# Altium integrated library AltiumOpenLibs.IntLib: 204 symbols (part 2 of 2)
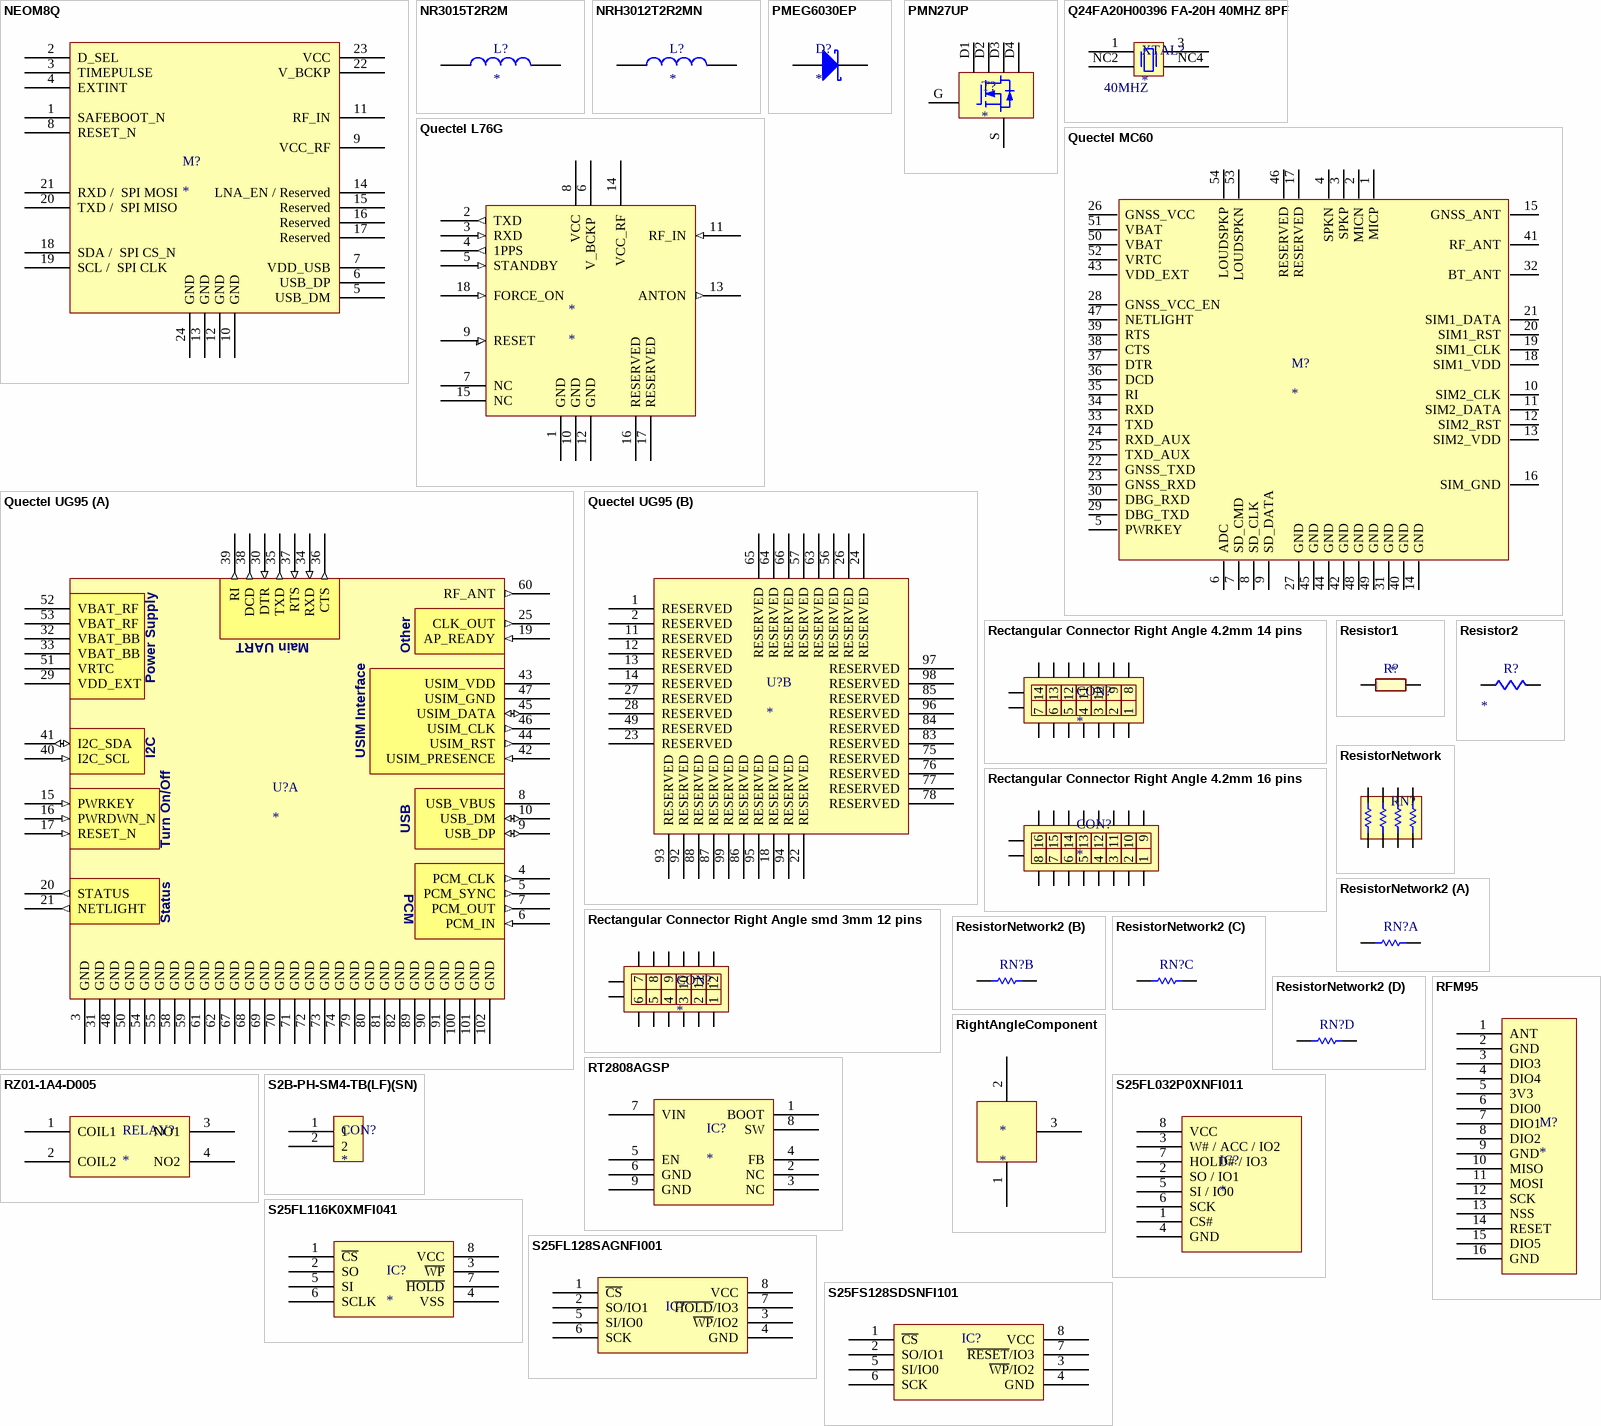
[diagram p10: symbols NEOM8Q to S25FS128SDSNFI101]

## RightAngleComponent
designator *
footprint RightAngleComponent
pins: 1, 2, 3

## RT2808AGSP
designator IC?
Manufacturer: RICHTEK; Manufacturer Part No: RT2808AGSP; Component Type: IC; Order Code: *; Supplier: *
footprint RT2808AGSP (SOIC, 8-Leads, Body 4.90x3.91mm, Pitch 1.27mm, Thermal Pad 3.50x2.50mm, IPC Medium Density)
pins: 1 BOOT, 2 NC, 3 NC, 4 FB, 5 EN, 6 GND, 7 VIN, 8 SW, 9 GND

## RZ01-1A4-D005
designator RELAY?
SCHRACK - TE CONNECTIVITY  RZ01-1A4-D005  General Purpose Relay, RZ Series, Power, Non Latching, SPST-NO, 5 VDC, 12 A; Manufacturer: SCHRACK - TE CONNECTIVITY; Manufacturer Part No: RZ01-1A4-D005; Component Type: Relay; Order Code: *; Supplier: *
footprint RZ01-1A4-D005
pins: 1 COIL1, 2 COIL2, 3 NO1, 4 NO2

## S2B-PH-SM4-TB(LF)(SN)
designator CON?
JST (JAPAN SOLDERLESS TERMINALS)  S2B-PH-SM4-TB(LF)(SN)  Wire-To-Board Connector, Right Angle, PH Series, Surface Mount, Header, 2, 2 mm; Component Type: Connector; Manufacturer: JST (JAPAN SOLDERLESS TERMINALS); Manufacturer Part No: S2B-PH-SM4-TB(LF)(SN); Order Code: *; Supplier: *
footprint S2B-PH-SM4-TB(LF)(SN)
pins: 1, 2

## S25FL032P0XNFI011
designator IC?
Manufacturer: SPANSION; Manufacturer Part No: S25FL032P0XNFI011; Component Type: IC; Order Code: *; Supplier: *
footprint S25FL032P0XNFI011 (PSON, 8-Leads, Body 5,00x6,00mm, Pitch 1,27mm, Thermal Pad 4,00x3,40mm, IPC Medium Density)
pins: 1 CS#, 2 SO / IO1, 3 W# / ACC / IO2, 4 GND, 5 SI / IO0, 6 SCK, 7 HOLD# / IO3, 8 VCC

## S25FL116K0XMFI041
designator IC?
SPANSION  S25FL116K0XMFI041  Flash Memory, NOR, 16 Mbit, 2M x 8bit, 108 MHz, SPI, SOIC, 8 Pins; Manufacturer: SPANSION; Manufacturer Part No: S25FL116K0XMFI041; Component Type: IC; Order Code: *; Supplier: *
footprint S25FL116K0XMFI041 (SOIC, 8-Leads, Body 4.90x3.90mm, Pitch 1.27mm, IPC Medium Density)
pins: 1 ~{CS}, 2 SO, 3 ~{WP}, 4 VSS, 5 SI, 6 SCLK, 7 ~{HOLD}, 8 VCC

## S25FL128SAGNFI001
designator IC?  (value not drawn)
SPANSION  S25FL128SAGNFI001  MEMORY, FLASH, 128MBIT, 8WSON; Manufacturer: SPANSION; Manufacturer Part No: S25FL128SAGNFI001; Component Type: IC; Order Code: *; Supplier: *
footprint S25FL128SAGNFI001
pins: 1 ~{CS}, 2 SO/IO1, 3 ~{WP}/IO2, 4 GND, 5 SI/IO0, 6 SCK, 7 ~{HOLD}/IO3, 8 VCC

## S25FS128SDSNFI101
designator IC?  (value not drawn)
SPANSION  S25FS128SDSNFI101  IC, MEMORY, FLASH, 128MBIT, 1.8V, 8WSON; Manufacturer: SPANSION; Manufacturer Part No: S25FS128SDSNFI101; Component Type: IC; Order Code: *; Supplier: *
footprint S25FS128SDSNFI101
pins: 1 ~{CS}, 2 SO/IO1, 3 ~{WP}/IO2, 4 GND, 5 SI/IO0, 6 SCK, 7 ~{RESET}/IO3, 8 VCC

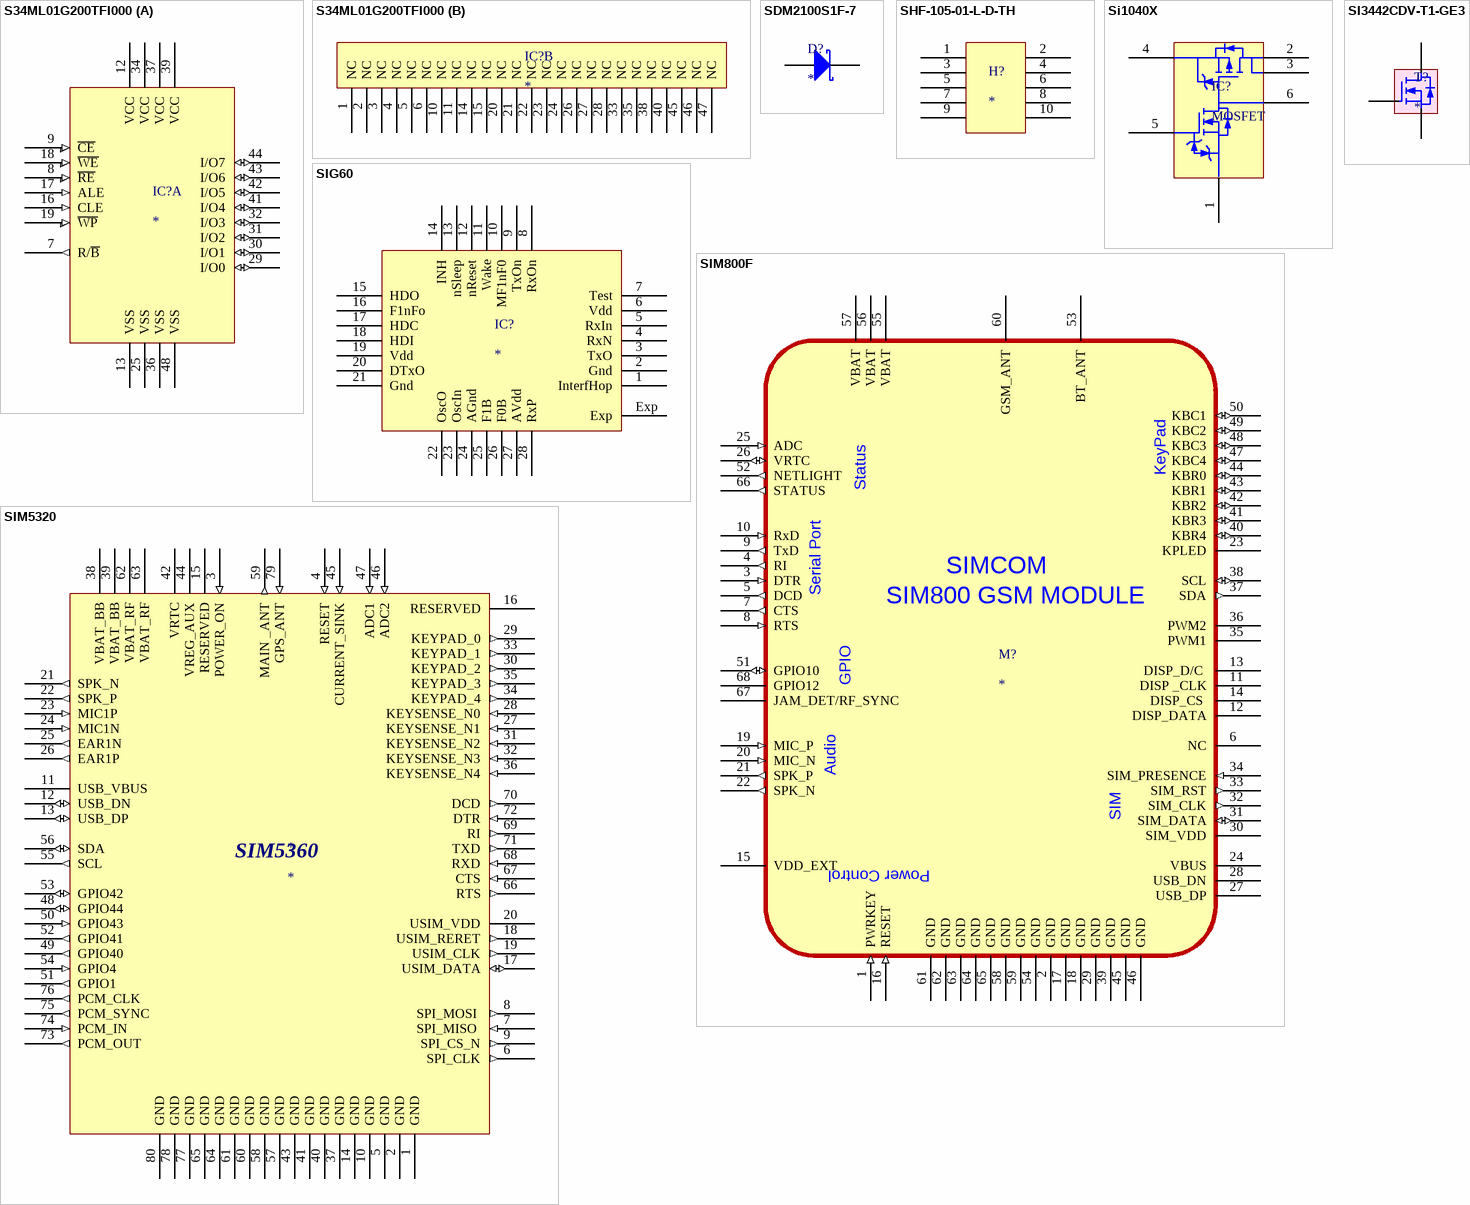
[diagram p6: symbols S34ML01G200TFI000 to SIM5320]

## S34ML01G200TFI000
designator IC?
SPANSION  S34ML01G200TFI000  MEMORY, FLASH, 1GBIT, X8, 48TSOP; Manufacturer: SPANSION; Manufacturer Part No: S34ML01G200TFI000; Order Code: *; Supplier: *; Component Type: IC
footprint TSSOP50P2000X120-48N (TSSOP, 48-Leads, Body 12.00x18.40mm, Pitch 0.50mm, IPC Medium Density)
part A pins: 7 R/~{B} (out), 8 ~{RE} (in), 9 ~{CE} (in), 12 VCC (power), 13 VSS (power), 16 CLE (in), 17 ALE (in), 18 ~{WE} (in), 19 ~{WP} (in), 25 VSS (power), 29 I/O0 (io), 30 I/O1 (io), 31 I/O2 (io), 32 I/O3 (io), 34 VCC (power), 36 VSS (power), 37 VCC (power), 39 VCC (power), 41 I/O4 (io), 42 I/O5 (io), 43 I/O6 (io), 44 I/O7 (io), 48 VSS (power)
part B pins: 1 NC, 2 NC, 3 NC, 4 NC, 5 NC, 6 NC, 10 NC, 11 NC, 14 NC, 15 NC, 20 NC, 21 NC, 22 NC, 23 NC, 24 NC, 26 NC, 27 NC, 28 NC, 33 NC, 35 NC, 38 NC, 40 NC, 45 NC, 46 NC, 47 NC

## SDM2100S1F-7
designator D?
Manufacturer: DIODES INC; Manufacturer Part No: SDM2100S1F-7; Component Type: Diode; Order Code: *; Supplier: *
footprint SDM2100S1F-7
pins: 1 A, 2 K

## SHF-105-01-L-D-TH
designator H?
Manufacturer: SAMTEC; Manufacturer Part No: SHF-105-01-L-D-TH; Order Code: *; Supplier: *; Component Type: HEADER
footprint SHF-105-01-L-D-TH
pins: 1, 2, 3, 4, 5, 6, 7, 8, 9, 10

## Si1040X
designator IC?, comment MOSFET
MOSFET N- & P-Ch MOSFET 8V 890mohm @ 2.5V; Manufacturer Part No: SI1040X-T1-GE3; Manufacturer: VISHAY SEMICONDUCTORS; Order Code: *; Supplier: *; Component Type: Mosfet
footprint SOT-563F
pins: 1, 2, 3, 4, 5, 6

## SI3442CDV-T1-GE3
designator T?
N-Channel 20 V (D-S) MOSFET; Manufacturer: VISHAY SILICONIX; Manufacturer Part No: SI3442CDV-T1-GE3; Order Code: *; Supplier: *; Component Type: Mosfet
footprint Si3442CDV-T1-GE3
pins: D, G, S

## SIG60
designator IC?
Manufacturer: YAMAR Electronics; Manufacturer Part No: SIG60; Order Code: *; Supplier: *; Component Type: IC
footprint SIG60
footprint SIG60
pins: 1 InterfHop, 2 Gnd, 3 TxO, 4 RxN, 5 RxIn, 6 Vdd, 7 Test, 8 RxOn, 9 TxOn, 10 MF1nF0, 11 Wake, 12 nReset, 13 nSleep, 14 INH, 15 HDO, 16 F1nFo, 17 HDC, 18 HDI, 19 Vdd, 20 DTxO, 21 Gnd, 22 OscO, 23 OscIn, 24 AGnd, 25 F1B, 26 F0B, 27 AVdd, 28 RxP, Exp

## SIM800F
designator M?
Manufacturer Part No: SIM800F; Manufacturer: SIMCOM; Component Type: Module GSM/GPRS; Order Code: *; Supplier: *
footprint SIM800F
pins: 1 PWRKEY (in), 2 GND, 3 DTR (in) "Data Terminal Ready", 4 RI (out) "Ring Indicator", 5 DCD (out) "Data Carrier Detect", 6 NC, 7 CTS (out), 8 RTS (in) "Request To Send", 9 TxD (out), 10 RxD (in), 11 DISP _CLK, 12 DISP_DATA, 13 DISP_D/C , 14 DISP_CS , 15 VDD_EXT (power), 16 RESET (in), 17 GND (power), 18 GND (power), 19 MIC_P (in), 20 MIC_N (in), 21 SPK_P (out), 22 SPK_N (out), 23 KPLED, 24 VBUS, 25 ADC (in), 26 VRTC (io), 27 USB_DP, 28 USB_DN, 29 GND (power), 30 SIM_VDD (power), 31 SIM_DATA (io), 32 SIM_CLK (out), 33 SIM_RST (out), 34 SIM_PRESENCE (in), 35 PWM1, 36 PWM2, 37 SDA (out), 38 SCL (io), 39 GND (power), 40 KBR4 (io), 41 KBR3 (io), 42 KBR2 (io), 43 KBR1 (io), 44 KBR0 (io), 45 GND (power), 46 GND (power), 47 KBC4 (io), 48 KBC3 (io), 49 KBC2 (io), 50 KBC1 (io), 51 GPIO10 (io), 52 NETLIGHT (out), 53 BT_ANT (power), 54 GND (power), 55 VBAT (power), 56 VBAT (power), 57 VBAT (power), 58 GND (power), 59 GND (power), 60 GSM_ANT, 61 GND, 62 GND, 63 GND, 64 GND, 65 GND, 66 STATUS (out), 67 JAM_DET/RF_SYNC, 68 GPIO12
text: KeyPad; Status; Serial Port; SIM800 GSM MODULE; GPIO; Audio; SIM; Power Control

## SIM5320
designator *
Manufacturer Part No: SIM5320; Manufacturer: SIMCOM; Component Type: Module GSM/GPRS/EDGE/HSDPA; Order Code: *; Supplier: *
footprint SIM5320
pins: 1 GND (power), 2 GND (power), 3 POWER_ON (in), 4 RESET (in), 5 GND (power), 6 SPI_CLK (out), 7 SPI_MISO  (in), 8 SPI_MOSI  (out), 9 SPI_CS_N (out), 10 GND (power), 11 USB_VBUS (power), 12 USB_DN (io), 13 USB_DP (io), 14 GND (power), 15 RESERVED, 16 RESERVED, 17 USIM_DATA (io), 18 USIM_RERET (out), 19 USIM_CLK (out), 20 USIM_VDD (power), 21 SPK_N (out), 22 SPK_P (out), 23 MIC1P (in), 24 MIC1N (in), 25 EAR1N (out), 26 EAR1P (out), 27 KEYSENSE_N1 (in), 28 KEYSENSE_N0 (in), 29 KEYPAD_0 (out), 30 KEYPAD_2 (out), 31 KEYSENSE_N2 (in), 32 KEYSENSE_N3 (in), 33 KEYPAD_1 (out), 34 KEYPAD_4 (out), 35 KEYPAD_3 (out), 36 KEYSENSE_N4 (in), 37 GND (power), 38 VBAT_BB (power), 39 VBAT_BB (power), 40 GND (power), 41 GND (power), 42 VRTC (power), 43 GND (power), 44 VREG_AUX (power), 45 CURRENT_SINK (in), 46 ADC2 (in), 47 ADC1 (in), 48 GPIO44 (io), 49 GPIO40 (out), 50 GPIO43 (in), 51 GPIO1 (out), 52 GPIO41 (out), 53 GPIO42 (io), 54 GPIO4 (in), 55 SCL (out), 56 SDA (io), 57 GND (power), 58 GND (power), 59 MAIN _ANT (out), 60 GND (power), 61 GND (power), 62 VBAT_RF (power), 63 VBAT_RF (power), 64 GND (power), 65 GND (power), 66 RTS (out), 67 CTS (in), 68 RXD (in), 69 RI (out), 70 DCD (out), 71 TXD (out), 72 DTR (in), 73 PCM_OUT (out), 74 PCM_IN (in), 75 PCM_SYNC (out), 76 PCM_CLK (out), 77 GND (power), 78 GND (power), 79 GPS_ANT (in), 80 GND (power)
text: SIM5360

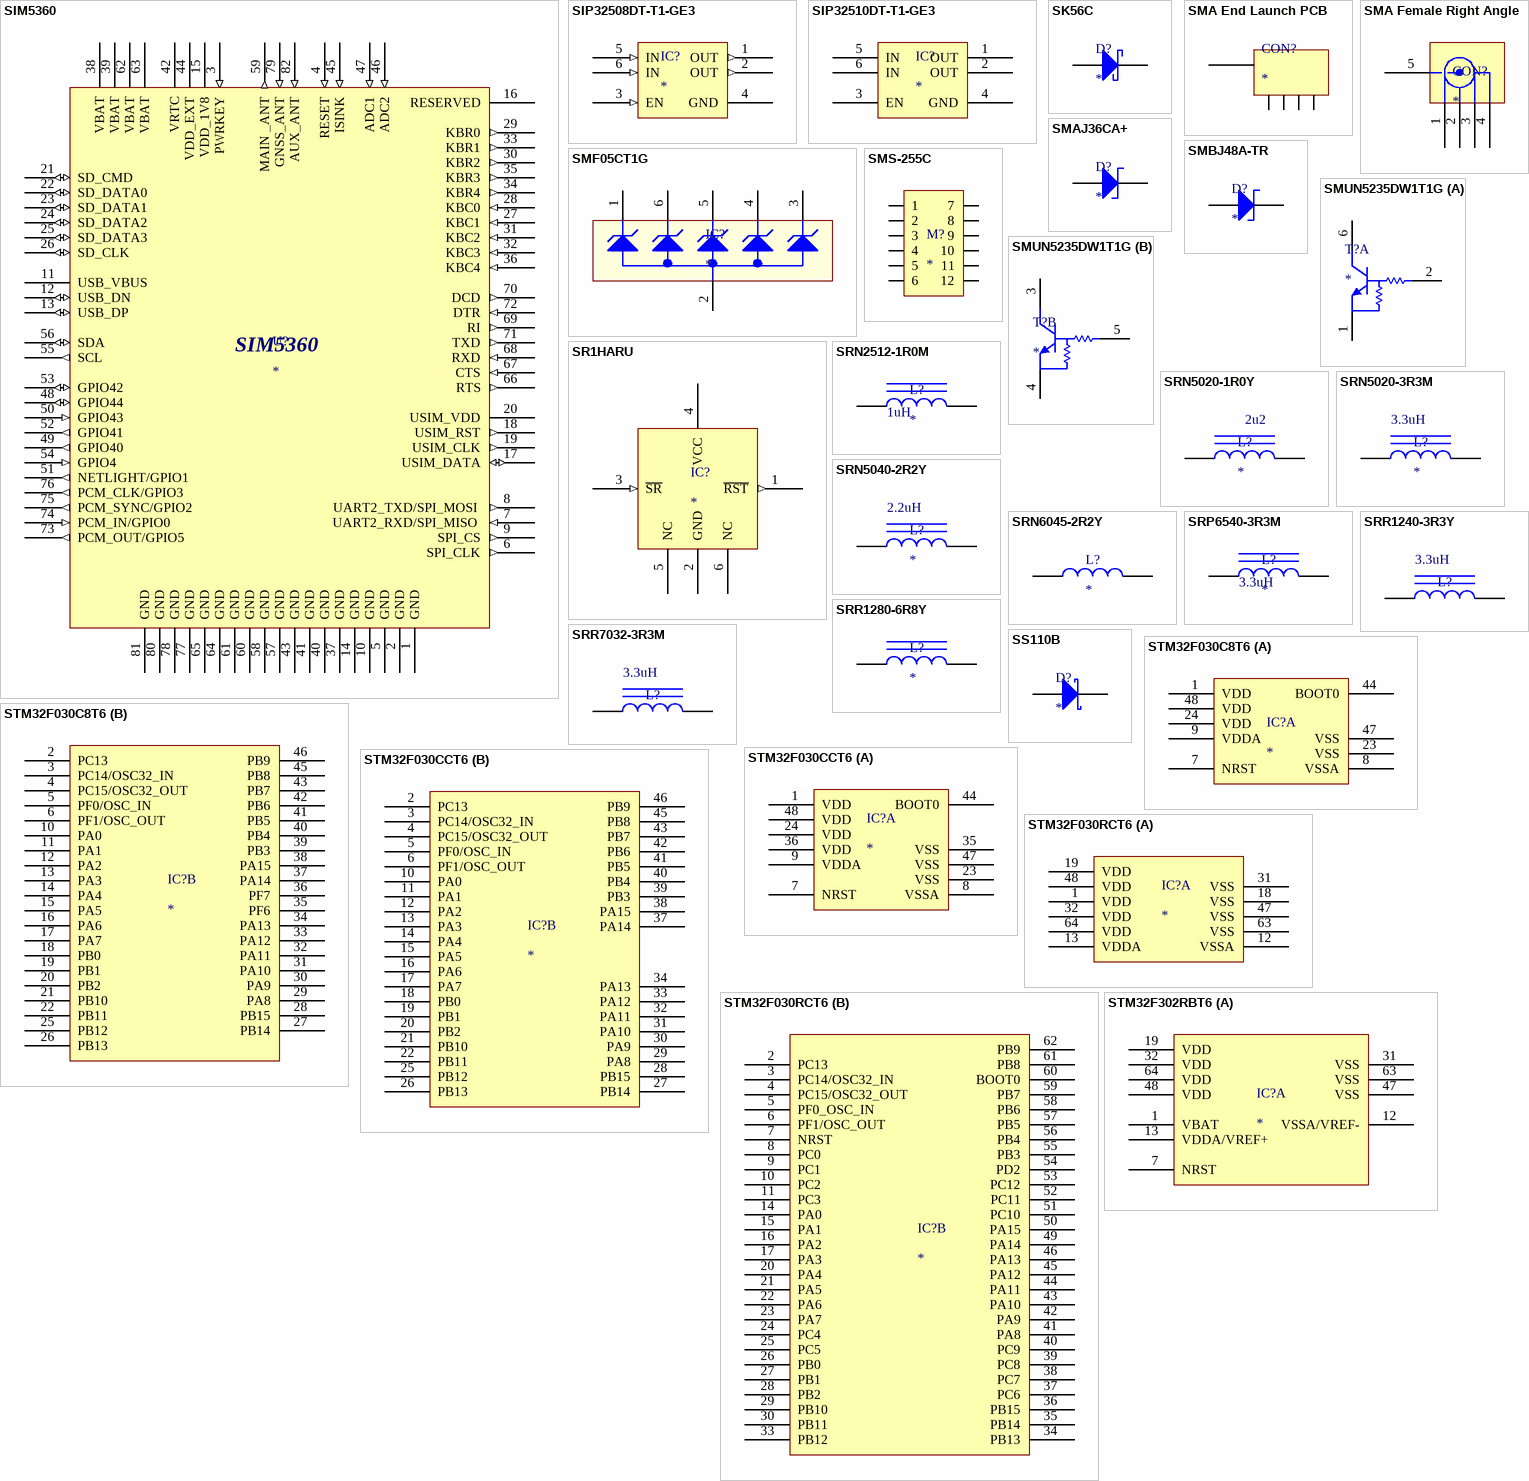
[diagram p7: symbols SIM5360 to STM32F302RBT6]

## SIM5360
designator U?
Manufacturer: SIMCOM; Manufacturer Part No: SIM5360; Component Type: Module GSM/GPRS/EDGE/HSDPA; Order Code: *; Supplier: *
footprint SIM5360
pins: 1 GND (power), 2 GND (power), 3 PWRKEY (in), 4 RESET (in), 5 GND (power), 6 SPI_CLK (out), 7 UART2_RXD/SPI_MISO  (in), 8 UART2_TXD/SPI_MOSI  (out), 9 SPI_CS (out), 10 GND (power), 11 USB_VBUS (power), 12 USB_DN (io), 13 USB_DP (io), 14 GND (power), 15 VDD_1V8 (power), 16 RESERVED, 17 USIM_DATA (io), 18 USIM_RST (out), 19 USIM_CLK (out), 20 USIM_VDD (power), 21 SD_CMD (io), 22 SD_DATA0 (io), 23 SD_DATA1 (io), 24 SD_DATA2 (io), 25 SD_DATA3 (io), 26 SD_CLK (io), 27 KBC1 (in), 28 KBC0 (in), 29 KBR0 (out), 30 KBR2 (out), 31 KBC2 (in), 32 KBC3 (in), 33 KBR1 (out), 34 KBR4 (out), 35 KBR3 (out), 36 KBC4 (in), 37 GND (power), 38 VBAT (power), 39 VBAT (power), 40 GND (power), 41 GND (power), 42 VRTC (power), 43 GND (power), 44 VDD_EXT (power), 45 ISINK (in), 46 ADC2 (in), 47 ADC1 (in), 48 GPIO44 (io), 49 GPIO40 (out), 50 GPIO43 (in), 51 NETLIGHT/GPIO1 (out), 52 GPIO41 (out), 53 GPIO42 (io), 54 GPIO4 (in), 55 SCL (out), 56 SDA (io), 57 GND (power), 58 GND (power), 59 MAIN _ANT (out), 60 GND (power), 61 GND (power), 62 VBAT (power), 63 VBAT (power), 64 GND (power), 65 GND (power), 66 RTS (out), 67 CTS (in), 68 RXD (in), 69 RI (out), 70 DCD (out), 71 TXD (out), 72 DTR (in), 73 PCM_OUT/GPIO5 (out), 74 PCM_IN/GPIO0 (in), 75 PCM_SYNC/GPIO2 (out), 76 PCM_CLK/GPIO3 (out), 77 GND (power), 78 GND (power), 79 GNSS_ANT (in), 80 GND (power), 81 GND (power), 82 AUX_ANT (in)

## SIP32508DT-T1-GE3
designator IC?
Power Switch ICs - Power Distribution Slew Rate Controlled Load Switch; Manufacturer: VISHAY SEMICONDUCTORS; Manufacturer Part No: SIP32508DT-T1-GE3; Order Code: *; Supplier: *; Component Type: IC
footprint SOT23-6
pins: 1 OUT (out), 2 OUT (out), 3 EN (in), 4 GND, 5 IN (in), 6 IN (in)

## SIP32510DT-T1-GE3
designator IC?
Power Load Switch, Slew Rate Controlled, High Side, Active High, 1 Output, 5.5V, TSOT-23-6; Manufacturer: VISHAY; Manufacturer Part No: SIP32510DT-T1-GE3; Component Type: IC; Order Code: *; Supplier: *
footprint SOT23-6
pins: 1 OUT, 2 OUT, 3 EN, 4 GND, 5 IN, 6 IN

## SK56C
designator D?
Manufacturer: TAIWAN SEMICONDUCTOR; Manufacturer Part No: SK56C; Order Code: *; Supplier: *; Component Type: Diode
footprint SK56C
pins: 1 K, 2 A

## SMA End Launch PCB
designator CON?
Manufacturer: *; Manufacturer Part No: *; Order Code: *; Supplier: *; Component Type: Connector
footprint SMA End Launch PCB
pins: 1, 2, 3, 4, 5

## SMA Female Right Angle
designator CON?
Component Type: Connector; Manufacturer: *; Manufacturer Part No: *; Order Code: *; Supplier: *
footprint SMA FEMALE RIGHT ANGLE
pins: 1, 2, 3, 4, 5

## SMAJ36CA+
designator D?
Manufacturer Part No: SMAJ36CA+; Manufacturer: MULTICOMP; Component Type: Diode; Order Code: *; Supplier: *
footprint SMAJ36CA+ (Chip Diode, 2-Leads, Body 5.04x2.63mm, IPC Medium Density)
pins: 1 K, 2 A

## SMBJ48A-TR
designator D?
Manufacturer: STMICROELECTRONICS; Manufacturer Part No: SMBJ48A-TR; Component Type: Diode; Order Code: *; Supplier: *
footprint SMBJ48A-TR
pins: 1 K, 2 A

## SMF05CT1G
designator IC?
TVS Diode, SMF Series, Unidirectional, 5 V, 12.5 V, SC-88, 6 Pins; Manufacturer: ON SEMICONDUCTOR; Manufacturer Part No: SMF05CT1G; Component Type: Diode; Order Code: *; Supplier: *
footprint SC70-6
pins: 1 K1, 2 A, 3 K3, 4 K4, 5 K5, 6 K6

## SMS-255C
designator M?
Manufacturer: Leader Tech Inc.; Manufacturer Part No: SMS-255C; Supplier: *; Order Code: *; Component Type: Shield
footprint SMS-255C
pins: 1, 2, 3, 4, 5, 6, 7, 8, 9, 10, 11, 12

## SMUN5235DW1T1G
designator T?
Manufacturer: ON SEMICONDUCTOR; Manufacturer Part No: SMUN5235DW1T1G; Component Type: Dual NPN Transistor; Order Code: *; Supplier: *
footprint SMUN5235DW1T1G
part A pins: 1 E1, 2 B1, 6 C1 (oc)
part B pins: 3 C2 (oc), 4 E2, 5 B2

## SR1HARU
designator IC?
STMICROELECTRONICS  SR1HARU  SUPERVISOR, RESET, 5.5V, UDFN-6; Manufacturer: STMICROELECTRONICS; Manufacturer Part No: SR1HARU; Order Code: *; Supplier: *; Component Type: IC
footprint UDFN-6
pins: 1 ~{RST} (out), 2 GND (power), 3 ~{SR} (in), 4 VCC (power), 5 NC, 6 NC

## SRN2512-1R0M
designator L?  value 1uH
BOURNS  SRN2512-1R0M  Surface Mount Power Inductor, SRN2512 Series, 1 µH, ± 20%, Semishielded, 0.057 ohm, 3.5 A; Manufacturer: BOURNS; Manufacturer Part No: SRN2512-1R0M; Order Code: *; Supplier: *; Component Type: Inductor
footprint SRN2512-1R0M
pins: 1, 2

## SRN5020-1R0Y
designator L?  value 2u2
BOURNS  SRN5020-2R2Y  INDUCTOR, SEMI-SHIELDED, 2.2uH, 2.9A, 30%, SMD; Manufacturer Part No: SRN5020-2R2Y; Manufacturer: BOURNS; Order Code: *; Supplier: *; Component Type: Inductor
footprint BOURNS_SRN5020-1R0Y
pins: 1, 2

## SRN5020-3R3M
designator L?  value 3.3uH
BOURNS  SRN5020-3R3M  INDUCTOR, SEMI-SHIELDED, 3.3uH, 2.4A, 20%, SMD; Manufacturer: BOURNS; Manufacturer Part No: SRN5020-3R3M; Order Code: *; Supplier: *; Component Type: Inductor
footprint SRN5020-3R3M
pins: 1, 2

## SRN5040-2R2Y
designator L?  value 2.2uH
BOURNS  SRN5040-2R2Y  Surface Mount Power Inductor, SRN5040 Series, 2.2 µH, ± 30%, Semishielded, 0.021 ohm, 3.5 A; Manufacturer: BOURNS; Manufacturer Part No: SRN5040-2R2Y; Order Code: *; Component Type: Inductor; Supplier: *
footprint SRN5040-2R2Y
pins: 1, 2

## SRN6045-2R2Y
designator L?
Manufacturer: BOURNS; Manufacturer Part No: SRN6045-2R2Y; Value: 2.2uH; Component Type: Inductor; Order Code: *; Supplier: *
footprint SRN6045-2R2Y
pins: 1, 2

## SRP6540-3R3M
designator L?  value 3.3uH
BOURNS  SRP6540-3R3M  Surface Mount Power Inductor, SRP6540 Series, 3.3 µH, ± 20%, Shielded, 0.023 ohm, 6.5 A; Manufacturer: BOURNS; Manufacturer Part No: SRP6540-3R3M; Order Code: *; Supplier: *; Component Type: Inductor
footprint SRP6540-3R3M
pins: 1, 2

## SRR1240-3R3Y
designator L?  value 3.3uH  (hidden comment: *)
BOURNS  SRR1240-3R3Y  Surface Mount Power Inductor, SRR1240 Series, 3.3 µH, ± 30%, Shielded, 0.015 ohm, 6.8 A; Manufacturer: BOURNS; Manufacturer Part No: SRR1240-3R3Y; Component Type: Inductor; Order Code: *; Supplier: *
footprint SRR1240-3R3Y
pins: 1, 2

## SRR1280-6R8Y
designator L?
Manufacturer Part No: SRR1280-6R8Y; Manufacturer: BOURNS; Order Code: *; Supplier: *; Component Type: Inductor
footprint SRR1280-6R8Y
pins: 1, 2

## SRR7032-3R3M
designator L?  value 3.3uH  (hidden comment: *)
BOURNS  SRR7032-3R3M  Surface Mount Power Inductor, SRR7032 Series, 3.3 µH, ± 20%, Shielded, 0.027 ohm, 2.4 A; Manufacturer Part No: SRR7032-3R3M; Manufacturer: BOURNS; Order Code: *; Supplier: *; Component Type: Inductor
footprint SRR7032-3R3M
pins: 1, 2

## SS110B
designator D?
Manufacturer: MULTICOMP; Manufacturer Part No: SS110B; Component Type: Diode; Order Code: *; Supplier: *
footprint SS110B (Chip Diode, 2-Leads, Body 5,33x2,01mm, IPC Medium Density)
pins: 1 A, 2 K

## STM32F030C8T6
designator IC?
Manufacturer: STMICROELECTRONICS; Manufacturer Part No: STM32F030C8T6; Component Type: IC; Order Code: *; Supplier: *
footprint STM32F030C8T6 (TSQFP, 48-Leads, Body 7.00x7.00mm, Pitch 0.50mm, IPC Medium Density)
part A pins: 1 VDD, 7 NRST, 8 VSSA, 9 VDDA, 23 VSS, 24 VDD, 44 BOOT0, 47 VSS, 48 VDD
part B pins: 2 PC13, 3 PC14/OSC32_IN, 4 PC15/OSC32_OUT, 5 PF0/OSC_IN, 6 PF1/OSC_OUT, 10 PA0, 11 PA1, 12 PA2, 13 PA3, 14 PA4, 15 PA5, 16 PA6, 17 PA7, 18 PB0, 19 PB1, 20 PB2, 21 PB10, 22 PB11, 25 PB12, 26 PB13, 27 PB14, 28 PB15, 29 PA8, 30 PA9, 31 PA10, 32 PA11, 33 PA12, 34 PA13, 35 PF6, 36 PF7, 37 PA14, 38 PA15, 39 PB3, 40 PB4, 41 PB5, 42 PB6, 43 PB7, 45 PB8, 46 PB9

## STM32F030CCT6
designator IC?
Manufacturer: STMICROELECTRONICS; Manufacturer Part No: STM32F030CCT6; Component Type: IC; Order Code: *; Supplier: *
footprint STM32F030CCT6
part A pins: 1 VDD, 7 NRST, 8 VSSA, 9 VDDA, 23 VSS, 24 VDD, 35 VSS, 36 VDD, 44 BOOT0, 47 VSS, 48 VDD
part B pins: 2 PC13, 3 PC14/OSC32_IN, 4 PC15/OSC32_OUT, 5 PF0/OSC_IN, 6 PF1/OSC_OUT, 10 PA0, 11 PA1, 12 PA2, 13 PA3, 14 PA4, 15 PA5, 16 PA6, 17 PA7, 18 PB0, 19 PB1, 20 PB2, 21 PB10, 22 PB11, 25 PB12, 26 PB13, 27 PB14, 28 PB15, 29 PA8, 30 PA9, 31 PA10, 32 PA11, 33 PA12, 34 PA13, 37 PA14, 38 PA15, 39 PB3, 40 PB4, 41 PB5, 42 PB6, 43 PB7, 45 PB8, 46 PB9

## STM32F030RCT6
designator IC?
Manufacturer Part No: STM32F030RCT6; Manufacturer: STMICROELECTRONICS; Component Type: IC; Supplier: *; Order Code: *
footprint STM32F030RCT6 (TSQFP, 64-Leads, Body 10.00x10.00mm, Pitch 0.50mm, IPC Medium Density)
part A pins: 1 VDD, 12 VSSA, 13 VDDA, 18 VSS, 19 VDD, 31 VSS, 32 VDD, 47 VSS, 48 VDD, 63 VSS, 64 VDD
part B pins: 2 PC13, 3 PC14/OSC32_IN, 4 PC15/OSC32_OUT, 5 PF0_OSC_IN, 6 PF1/OSC_OUT, 7 NRST, 8 PC0, 9 PC1, 10 PC2, 11 PC3, 14 PA0, 15 PA1, 16 PA2, 17 PA3, 20 PA4, 21 PA5, 22 PA6, 23 PA7, 24 PC4, 25 PC5, 26 PB0, 27 PB1, 28 PB2, 29 PB10, 30 PB11, 33 PB12, 34 PB13, 35 PB14, 36 PB15, 37 PC6, 38 PC7, 39 PC8, 40 PC9, 41 PA8, 42 PA9, 43 PA10, 44 PA11, 45 PA12, 46 PA13, 49 PA14, 50 PA15, 51 PC10, 52 PC11, 53 PC12, 54 PD2, 55 PB3, 56 PB4, 57 PB5, 58 PB6, 59 PB7, 60 BOOT0, 61 PB8, 62 PB9

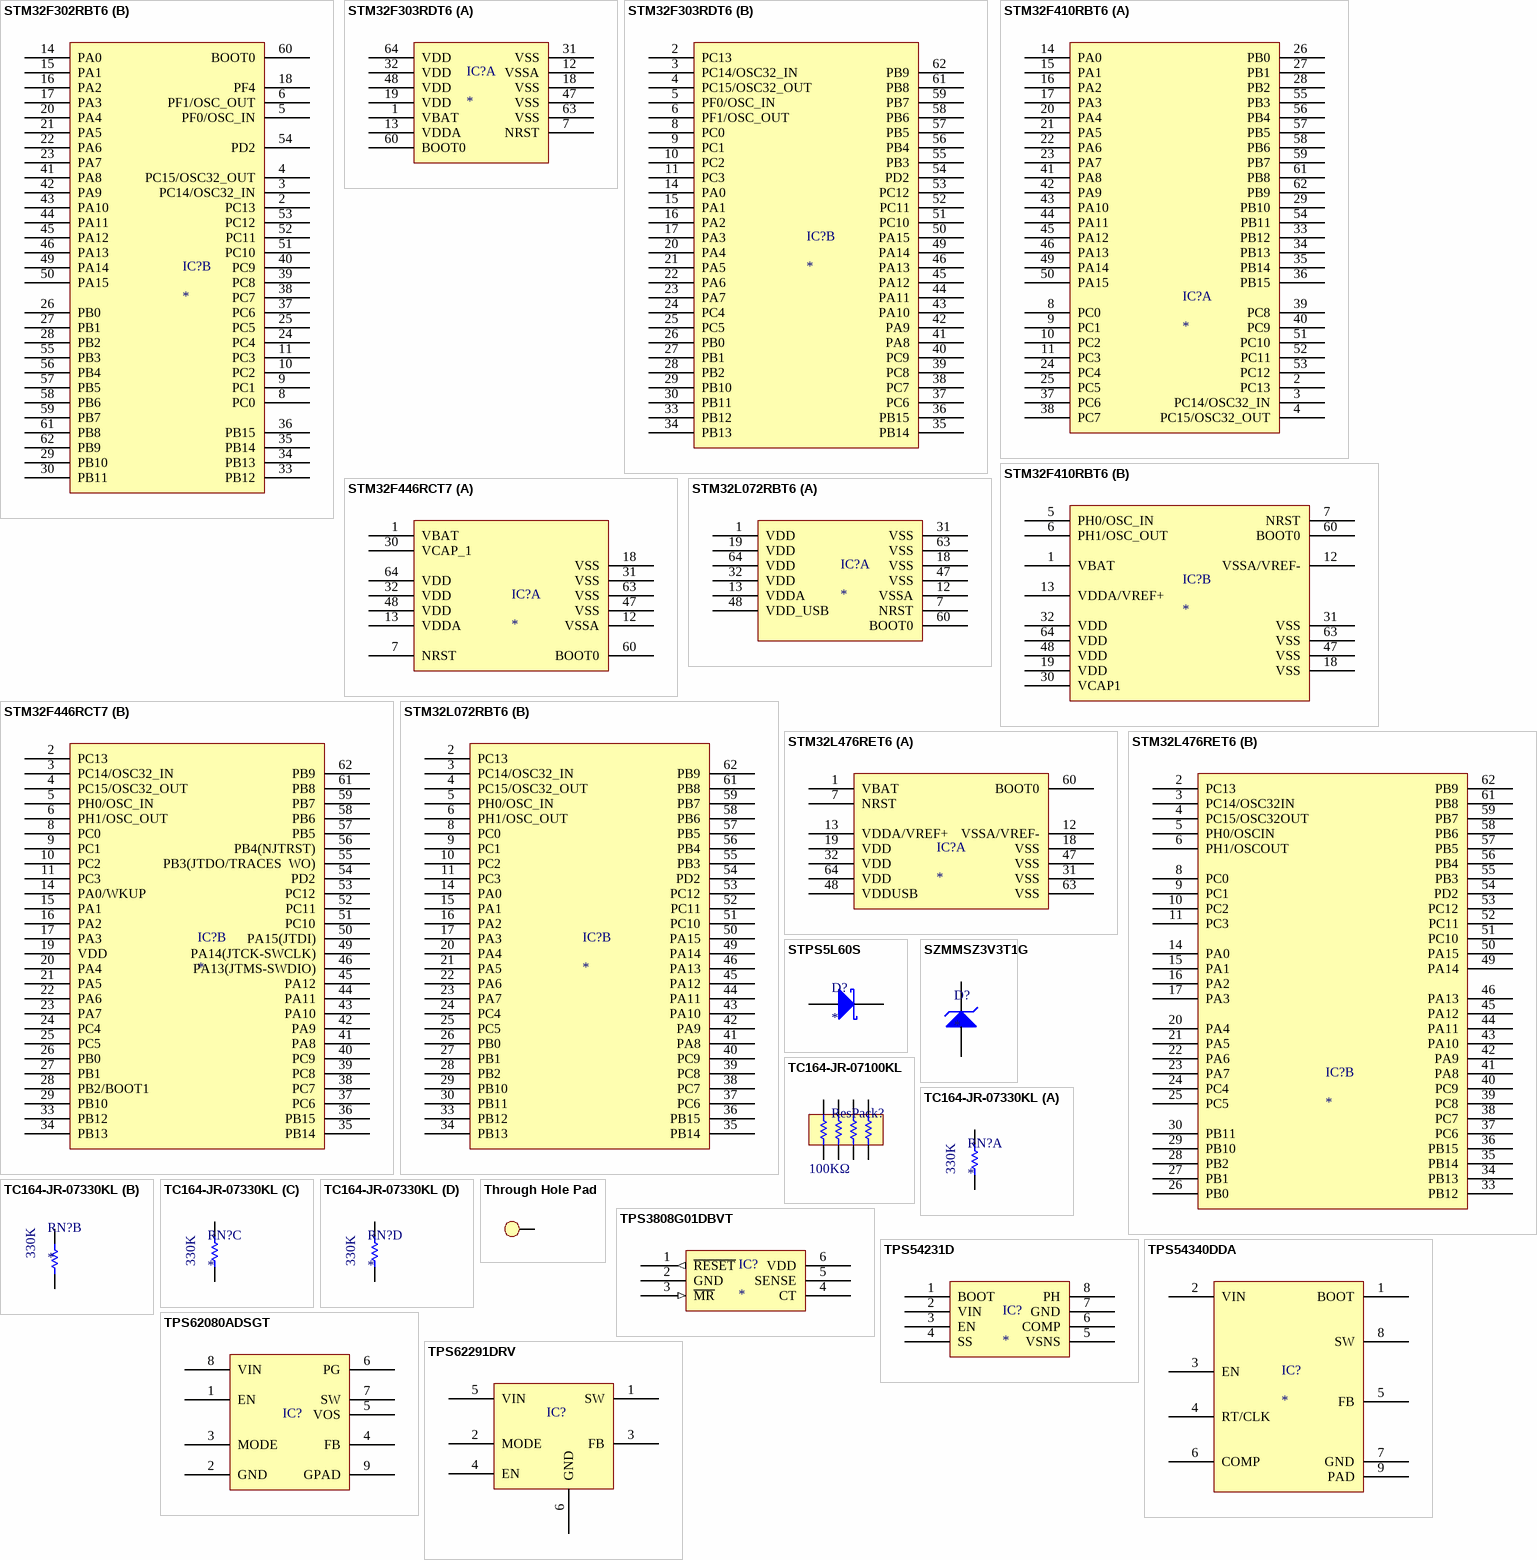
[diagram p8: symbols STM32F302RBT6 to TPS62291DRV]

## STM32F302RBT6
designator IC?
STMICROELECTRONICS  STM32F302RBT6  32 Bit Microcontroller, General Purpose, ARM Cortex-M4, 72 MHz, 128 KB, 24 KB, 64 Pins, LQFP; Manufacturer: STMICROELECTRONICS; Manufacturer Part No: STM32F302RBT6; Component Type: IC; Order Code: *; Supplier: *
footprint TSQFP50P1200X1200X160-64N (TSQFP, 64-Leads, Body 10.00x10.00mm, Pitch 0.50mm, IPC Medium Density)
part A pins: 1 VBAT, 7 NRST, 12 VSSA/VREF-, 13 VDDA/VREF+, 19 VDD, 31 VSS, 32 VDD, 47 VSS, 48 VDD, 63 VSS, 64 VDD
part B pins: 2 PC13, 3 PC14/OSC32_IN, 4 PC15/OSC32_OUT, 5 PF0/OSC_IN, 6 PF1/OSC_OUT, 8 PC0, 9 PC1, 10 PC2, 11 PC3, 14 PA0, 15 PA1, 16 PA2, 17 PA3, 18 PF4, 20 PA4, 21 PA5, 22 PA6, 23 PA7, 24 PC4, 25 PC5, 26 PB0, 27 PB1, 28 PB2, 29 PB10, 30 PB11, 33 PB12, 34 PB13, 35 PB14, 36 PB15, 37 PC6, 38 PC7, 39 PC8, 40 PC9, 41 PA8, 42 PA9, 43 PA10, 44 PA11, 45 PA12, 46 PA13, 49 PA14, 50 PA15, 51 PC10, 52 PC11, 53 PC12, 54 PD2, 55 PB3, 56 PB4, 57 PB5, 58 PB6, 59 PB7, 60 BOOT0, 61 PB8, 62 PB9

## STM32F303RDT6
designator IC?
Manufacturer: STMICROELECTRONICS; Manufacturer Part No: STM32F303RDT6; Component Type: IC; Order Code: *; Supplier: *
footprint STM32F303RDT6 (TSQFP, 64-Leads, Body 10.00x10.00mm, Pitch 0.50mm, IPC Medium Density)
part A pins: 1 VBAT, 7 NRST, 12 VSSA, 13 VDDA, 18 VSS, 19 VDD, 31 VSS, 32 VDD, 47 VSS, 48 VDD, 60 BOOT0, 63 VSS, 64 VDD
part B pins: 2 PC13, 3 PC14/OSC32_IN, 4 PC15/OSC32_OUT, 5 PF0/OSC_IN, 6 PF1/OSC_OUT, 8 PC0, 9 PC1, 10 PC2, 11 PC3, 14 PA0, 15 PA1, 16 PA2, 17 PA3, 20 PA4, 21 PA5, 22 PA6, 23 PA7, 24 PC4, 25 PC5, 26 PB0, 27 PB1, 28 PB2, 29 PB10, 30 PB11, 33 PB12, 34 PB13, 35 PB14, 36 PB15, 37 PC6, 38 PC7, 39 PC8, 40 PC9, 41 PA8, 42 PA9, 43 PA10, 44 PA11, 45 PA12, 46 PA13, 49 PA14, 50 PA15, 51 PC10, 52 PC11, 53 PC12, 54 PD2, 55 PB3, 56 PB4, 57 PB5, 58 PB6, 59 PB7, 61 PB8, 62 PB9

## STM32F410RBT6
designator IC?
Manufacturer: STMICROELECTRONICS; Manufacturer Part No: STM32F410RBT6; Component Type: IC; Order Code: *; Supplier: *
footprint STM32F410RBT6 (TSQFP, 64-Leads, Body 10.00x10.00mm, Pitch 0.50mm, IPC Medium Density)
part A pins: 2 PC13, 3 PC14/OSC32_IN, 4 PC15/OSC32_OUT, 8 PC0, 9 PC1, 10 PC2, 11 PC3, 14 PA0, 15 PA1, 16 PA2, 17 PA3, 20 PA4, 21 PA5, 22 PA6, 23 PA7, 24 PC4, 25 PC5, 26 PB0, 27 PB1, 28 PB2, 29 PB10, 33 PB12, 34 PB13, 35 PB14, 36 PB15, 37 PC6, 38 PC7, 39 PC8, 40 PC9, 41 PA8, 42 PA9, 43 PA10, 44 PA11, 45 PA12, 46 PA13, 49 PA14, 50 PA15, 51 PC10, 52 PC11, 53 PC12, 54 PB11, 55 PB3, 56 PB4, 57 PB5, 58 PB6, 59 PB7, 61 PB8, 62 PB9
part B pins: 1 VBAT, 5 PH0/OSC_IN, 6 PH1/OSC_OUT, 7 NRST, 12 VSSA/VREF-, 13 VDDA/VREF+, 18 VSS, 19 VDD, 30 VCAP1, 31 VSS, 32 VDD, 47 VSS, 48 VDD, 60 BOOT0, 63 VSS, 64 VDD

## STM32F446RCT7
designator IC?
Manufacturer: STMICROELECTRONICS; Manufacturer Part No: STM32F446RCT7; Component Type: IC; Order Code: *; Supplier: *
footprint STM32F446RCT7 (TSQFP, 64-Leads, Body 7.00x10.00mm, Pitch 0.50mm, IPC Medium Density)
part A pins: 1 VBAT, 7 NRST, 12 VSSA, 13 VDDA, 18 VSS, 30 VCAP_1, 31 VSS, 32 VDD, 47 VSS, 48 VDD, 60 BOOT0, 63 VSS, 64 VDD
part B pins: 2 PC13, 3 PC14/OSC32_IN, 4 PC15/OSC32_OUT, 5 PH0/OSC_IN, 6 PH1/OSC_OUT, 8 PC0, 9 PC1, 10 PC2, 11 PC3, 14 PA0/WKUP, 15 PA1, 16 PA2, 17 PA3, 19 VDD, 20 PA4, 21 PA5, 22 PA6, 23 PA7, 24 PC4, 25 PC5, 26 PB0, 27 PB1, 28 PB2/BOOT1, 29 PB10, 33 PB12, 34 PB13, 35 PB14, 36 PB15, 37 PC6, 38 PC7, 39 PC8, 40 PC9, 41 PA8, 42 PA9, 43 PA10, 44 PA11, 45 PA12, 46  PA13(JTMS-SWDIO), 49 PA14(JTCK-SWCLK), 50 PA15(JTDI), 51 PC10, 52 PC11, 53 PC12, 54 PD2, 55 PB3(JTDO/TRACES  WO), 56 PB4(NJTRST), 57 PB5, 58 PB6, 59 PB7, 61 PB8, 62 PB9

## STM32L072RBT6
designator IC?
Manufacturer Part No: STM32L072RBT6; Manufacturer: STMICROELECTRONICS; Component Type: IC; Order Code: *; Supplier: *
footprint STM32L072RBT6 (TSQFP, 64-Leads, Body 10.00x10.00mm, Pitch 0.50mm, IPC Medium Density)
part A pins: 1 VDD, 7 NRST, 12 VSSA, 13 VDDA, 18 VSS, 19 VDD, 31 VSS, 32 VDD, 47 VSS, 48 VDD_USB, 60 BOOT0, 63 VSS, 64 VDD
part B pins: 2 PC13, 3 PC14/OSC32_IN, 4 PC15/OSC32_OUT, 5 PH0/OSC_IN, 6 PH1/OSC_OUT, 8 PC0, 9 PC1, 10 PC2, 11 PC3, 14 PA0, 15 PA1, 16 PA2, 17 PA3, 20 PA4, 21 PA5, 22 PA6, 23 PA7, 24 PC4, 25 PC5, 26 PB0, 27 PB1, 28 PB2, 29 PB10, 30 PB11, 33 PB12, 34 PB13, 35 PB14, 36 PB15, 37 PC6, 38 PC7, 39 PC8, 40 PC9, 41 PA8, 42 PA9, 43 PA10, 44 PA11, 45 PA12, 46 PA13, 49 PA14, 50 PA15, 51 PC10, 52 PC11, 53 PC12, 54 PD2, 55 PB3, 56 PB4, 57 PB5, 58 PB6, 59 PB7, 61 PB8, 62 PB9

## STM32L476RET6
designator IC?
Manufacturer: STMICROELECTRONICS; Manufacturer Part No: STM32L476RET6; Component Type: IC; Supplier: *; Order Code: *
footprint STM32L476RET6 (TSQFP, 64-Leads, Body 10.00x10.00mm, Pitch 0.50mm, IPC Medium Density)
part A pins: 1 VBAT , 7 NRST, 12 VSSA/VREF-, 13 VDDA/VREF+, 18 VSS, 19 VDD, 31 VSS, 32 VDD, 47 VSS, 48 VDDUSB, 60 BOOT0, 63 VSS, 64 VDD
part B pins: 2 PC13, 3 PC14/OSC32IN, 4 PC15/OSC32OUT, 5 PH0/OSCIN, 6 PH1/OSCOUT, 8 PC0, 9 PC1, 10 PC2, 11 PC3, 14 PA0, 15 PA1, 16 PA2, 17 PA3, 20 PA4, 21 PA5, 22 PA6, 23 PA7, 24 PC4, 25 PC5, 26 PB0, 27 PB1, 28 PB2, 29 PB10, 30 PB11, 33 PB12, 34 PB13, 35 PB14, 36 PB15, 37 PC6, 38 PC7, 39 PC8, 40 PC9, 41 PA8, 42 PA9, 43 PA10, 44 PA11, 45 PA12, 46 PA13, 49 PA14, 50 PA15, 51 PC10, 52 PC11, 53 PC12, 54 PD2, 55 PB3, 56 PB4, 57 PB5, 58 PB6, 59 PB7, 61 PB8, 62 PB9

## STPS5L60S
designator D?
STMICROELECTRONICS  STPS5L60S  Rectifier Diode, Single, 60 V, 5 A, DO-214AB, 2, 520 mV; Manufacturer: STMICROELECTRONICS; Manufacturer Part No: STPS5L60S; Component Type: Diode; Order Code: *; Supplier: *
footprint STPS5L60S
pins: 1 K, 2 A

## SZMMSZ3V3T1G
designator D?
Manufacturer Part No: SZMMSZ3V3T1G; Manufacturer: ON SEMICONDUCTOR; Component Type: Diode; Order Code: *; Supplier: *
footprint SZMMSZ3V3T1G
pins: 1 K, 2 A

## TC164-JR-07100KL
designator ResPack?  value 100KΩ  (hidden comment: TC164-JR-07100KL)
YAGEO (PHYCOMP)  TC164-JR-07100KL  RESISTOR ARRAY, ARC241 1206 100K; Manufacturer: YAGEO (PHYCOMP); Manufacturer Part No: TC164-JR-07100KL; Component Type: Chip Resistor; Order Code: *; Supplier: *
footprint TC164-JR-07100KL
pins: 1, 2, 3, 4, 5, 6, 7, 8

## TC164-JR-07330KL
designator RN?  value 330K
TC164-JR Series; Manufacturer: YAGEO; Manufacturer Part No: TC164-JR-07330KL; Order Code: *; Supplier: *; Component Type: Resistor Array
footprint TC164-JR-07330KL
part A pins: 1, 8
part B pins: 2, 7
part C pins: 3, 6
part D pins: 4, 5

## Through Hole Pad
designator P?  (value not drawn)
Manufacturer: -; Manufacturer Part No: -; Component Type: -; Order Code: -; Supplier: -
footprint Through Hole Pad
pins: 1 -

## TPS3808G01DBVT
designator IC?
TEXAS INSTRUMENTS  TPS3808G01DBVT  SUPERVISORY CCT, 3808G01, SOT-23-6; Manufacturer Part No: TPS3808G01DBVT; Manufacturer: TEXAS INSTRUMENTS; Component Type: IC; Order Code: *; Supplier: *
footprint TPS3808G01DBVT
pins: 1 ~{RESET} (out), 2 GND (power), 3 ~{MR} (in), 4 CT, 5 SENSE, 6 VDD (power)

## TPS54231D
designator IC?
TPS54231 2-A, 28-V Input, Step-Down DC-DC Converter With Eco-mode™; Manufacturer: TEXAS INSTRUMENTS; Manufacturer Part No: TPS54231D; ComponentType: IC; Order Code: *; Supplier: *
footprint SOIC8
pins: 1 BOOT, 2 VIN, 3 EN, 4 SS, 5 VSNS, 6 COMP, 7 GND, 8 PH

## TPS54340DDA
designator IC?
Manufacturer: TEXAS INSTRUMENTS; Manufacturer Part No: TPS54340DDA; Component Type: IC; Order Code: *; Supplier: *
footprint TPS54340DDA
pins: 1 BOOT, 2 VIN, 3 EN, 4 RT/CLK, 5 FB, 6 COMP, 7 GND, 8 SW, 9 PAD

## TPS62080ADSGT
designator IC?  (value not drawn)
TEXAS INSTRUMENTS  TPS62080ADSGT  DC-DC Switching Buck Step Down Regulator, Adjustable, 2.3V-6Vin, 500mV-4Vout, 1.2Aout, WSON-8; Manufacturer: TEXAS INSTRUMENTS; Manufacturer Part No: TPS62080ADSGT; Component Type: IC; Order Code: *; Supplier: *
footprint TPS62080ADSGT
pins: 1 EN, 2 GND, 3 MODE, 4 FB, 5 VOS, 6 PG, 7 SW, 8 VIN, 9 GPAD

## TPS62291DRV
designator IC?  (value not drawn)
Manufacturer: TEXAS INSTRUMENTS; Manufacturer Part No: TPS62291; Component Type: IC; Order Code: *; Supplier: *
footprint TPS62291
pins: 1 SW, 2 MODE, 3 FB, 4 EN, 5 VIN, 6 GND

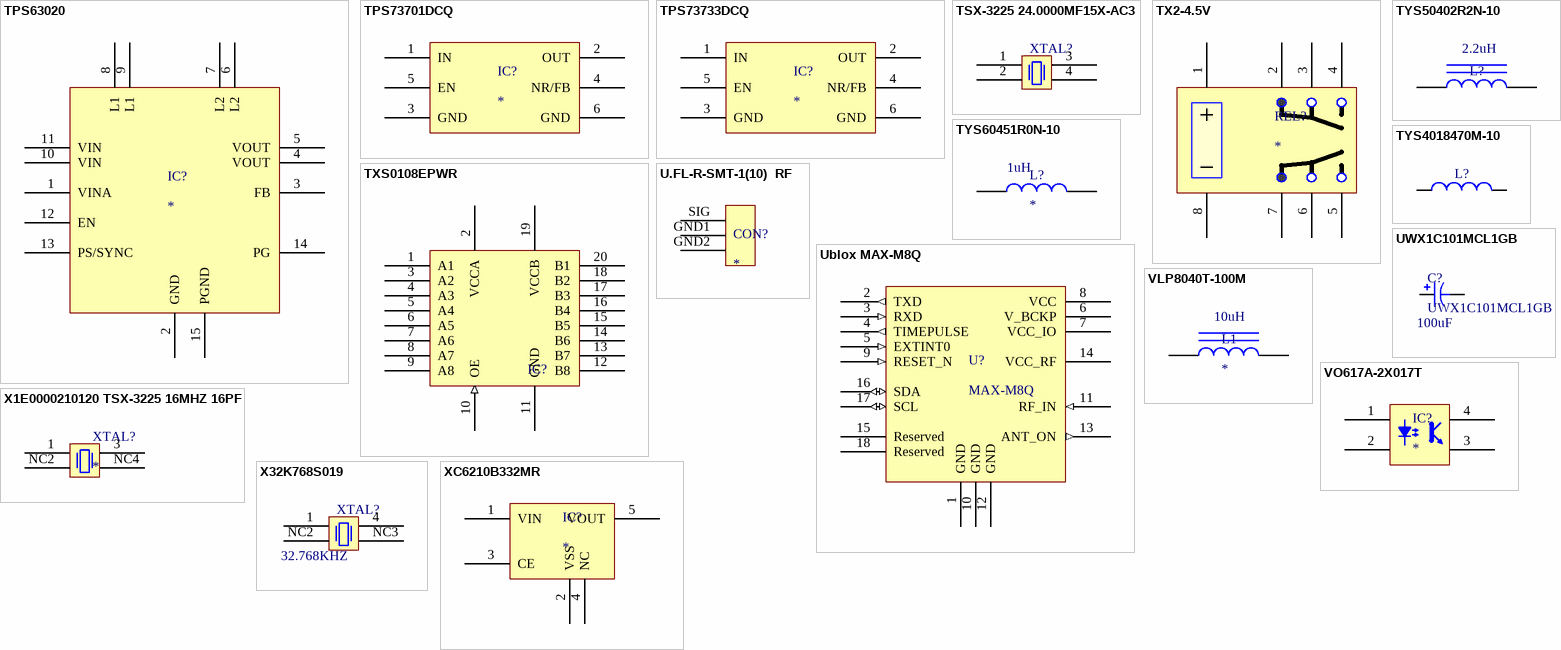
[diagram p9: symbols TPS63020 to XC6210B332MR]

## TPS63020
designator IC?
Manufacturer: TEXAS INSTRUMENTS; Manufacturer Part No: TPS63020; Component Type: IC; Order Code: *; Supplier: *
pins: 1 VINA, 2 GND, 3 FB, 4 VOUT, 5 VOUT, 6 L2, 7 L2, 8 L1, 9 L1, 10 VIN, 11 VIN, 12 EN, 13 PS/SYNC, 14 PG, 15 PGND

## TPS73701DCQ
designator IC?
Manufacturer: TEXAS INSTRUMENTS; Manufacturer Part No: TPS73701DCQ; Order Code: *; Supplier: *; Component Type: IC
footprint TPS73701DCQ
pins: 1 IN, 2 OUT, 3 GND, 4 NR/FB, 5 EN, 6 GND

## TPS73733DCQ
designator IC?
Manufacturer: TEXAS INSTRUMENTS; Manufacturer Part No: TPS73733DCQ; Component Type: IC; Order Code: *; Supplier: *
footprint TPS73733DCQ
pins: 1 IN, 2 OUT, 3 GND, 4 NR/FB, 5 EN, 6 GND

## TSX-3225 24.0000MF15X-AC3
designator XTAL?
Crystals 24MHz 10ppm 9pF-40C +85C; Manufacturer Part No: TSX-3225 24.0000MF15X-AC3; Manufacturer: Epson Timing; Component Type: Crystal; Order Code: *; Supplier: *
footprint TSX-3225 24.0000MF15X-AC3
pins: 1, 2, 3, 4

## TX2-4.5V
designator REL?
Manufacturer: PANASONIC; Manufacturer Part No: TX2-4.5V; Order Code: *; Supplier: *; Component Type: RELAY
footprint TX2-4.5V
pins: 1, 2, 3, 4, 5, 6, 7, 8

## TXS0108EPWR
designator IC?  (value not drawn)
TEXAS INSTRUMENTS  TXS0108EPWR  TRANSLATOR, VOLTAGE, 8BIT, 20TSSOP; Manufacturer: TEXAS INSTRUMENTS; Manufacturer Part No: TXS0108EPWR; Component Type: IC; Order Code: *; Supplier: *
footprint TXS0108EPWR
pins: 1 A1, 2 VCCA (power), 3 A2, 4 A3, 5 A4, 6 A5, 7 A6, 8 A7, 9 A8, 10 OE (in), 11 GND (power), 12 B8, 13 B7, 14 B6, 15 B5, 16 B4, 17 B3, 18 B2, 19 VCCB (power), 20 B1

## TYS50402R2N-10
designator L?  value 2.2uH  (hidden comment: *)
LAIRD TECHNOLOGIES  TYS50402R2N-10  Surface Mount Power Inductor, TYS Series, 2.2 µH, ± 30%, Shielded, 0.019 ohm, 3.8 A; Manufacturer: LAIRD TECHNOLOGIES; Manufacturer Part No: TYS50402R2N-10; Order Code: *; Supplier: *; Component Type: Inductor
footprint TYS50402R2N-10
pins: 1, 2

## TYS60451R0N-10
designator L?  value 1uH
Manufacturer: LAIRD TECHNOLOGIES; Manufacturer Part No: TYS60451R0N-10; Component Type: Inductor
footprint TYS60451R0N-10
pins: 1, 2

## TYS4018470M-10
designator L?, comment Inductor  (value not drawn)
Manufacturer: LAIRD; Manufacturer Part No: TYS4018470M-10; Value: 47uH; Order Code: *; Supplier: *; Component Type: POWER INDUCTOR
footprint TYS4018470M-10
pins: 1, 2

## U.FL-R-SMT-1(10)  RF
designator CON?
HIROSE(HRS)  U.FL-R-SMT-1(10)  RF / Coaxial Connector, U.FL Coaxial, Straight Jack, Surface Mount Vertical, 50 ohm, Brass; Manufacturer: HIROSE(HRS); Manufacturer Part No: U.FL-R-SMT-1(10); Order Code: *; Supplier: *; Component Type: Connector
footprint U.FL-R-SMT-1(10)  RF
pins: GND1, GND2, SIG

## Ublox MAX-M8Q
designator U?, comment MAX-M8Q
MAX-M8Q  u-blox M8 Concurrent GNSS modules; Manufacturer: UBLOX; Component Type: Module; Order Code: *; Supplier: *; Manufacturer Part No: MAX-M8Q
footprint MAX-M8Q
pins: 1 GND (power), 2 TXD (out), 3 RXD (in), 4 TIMEPULSE (out), 5 EXTINT0 (in), 6 V_BCKP (power), 7 VCC_IO (power), 8 VCC (power), 9 RESET_N (in), 10 GND (power), 11 RF_IN (in), 12 GND (power), 13 ANT_ON (out), 14 VCC_RF (power), 15 Reserved, 16 SDA (io), 17 SCL (io), 18 Reserved

## UWX1C101MCL1GB
designator C?  value 100uF
Manufacturer: NICHICON; Manufacturer Part No: UWX1C101MCL1GB; Component Type: Capacitor; Order Code: *; Supplier: *
footprint UWX1C101MCL1GB
pins: 1, 2

## VLP8040T-100M
designator L1  value 10uH
TDK  VLP8040T-100M  Surface Mount Power Inductor, VLP Series, 10 µH, 3.5 A, 3.2 A, Shielded, 0.038 ohm; ComponentType: Inductor; Manufacturer: TDK; Manufacturer Part No: VLP8040T-100M; Order Code: *; Supplier: *
footprint VLP8040T-100M
pins: 1, 2

## VO617A-2X017T
designator IC?
Manufacturer: VISHAY; Manufacturer Part No: VO617A-2X017T; Component Type: IC; Order Code: *; Supplier: *
footprint VO617A-2X017T
pins: 1 A, 2 K, 3 E, 4 C

## X1E0000210120 TSX-3225 16MHZ 16PF
designator XTAL?
EPSON  X1E0000210120 TSX-3225 16MHZ 16PF  CRYSTAL, 16MHZ, 16PF, 3.2 X 2.5MM; Manufacturer: EPSON; Manufacturer Part No: X1E0000210120 TSX-3225 16MHZ 16PF; Value: 16MHz; Order Code: *; Supplier: *; Component Type: Crystal
footprint X1E0000210120 TSX-3225 16MHZ 16PF
pins: 1, 3, NC2, NC4

## X32K768S019
designator XTAL?  value 32.768KHZ
Manufacturer: AEL CRYSTALS; Manufacturer Part No: X32K768S019; Order Code: *; Supplier: *; Component Type: Crystal
footprint X32K768S019
pins: 1, 4, NC2, NC3

## XC6210B332MR
designator IC?
OREX  XC6210B332MR  Fixed LDO Voltage Regulator, 1.5V to 6V, 50mV Dropout, 3.3Vout, 700mAout, SOT-23-5; Manufacturer: TOREX; Manufacturer Part No: XC6210B332MR; Component Type: IC
footprint XC6210B332MR
pins: 1 VIN, 2 VSS, 3 CE, 4 NC, 5 VOUT